# Altium footprint library SMD_TRSTR.PcbLib: 2 footprints
Each footprint in its own frame and in the unit in brackets; x right, y up, seen from the top. Pads: shape width x height; smd on the part's side, far side on the other; paste and mask are expansions set on the pad; w line width, h text height; cw(c..) or ccw(c..) is an arc to the next point about the centre after c.
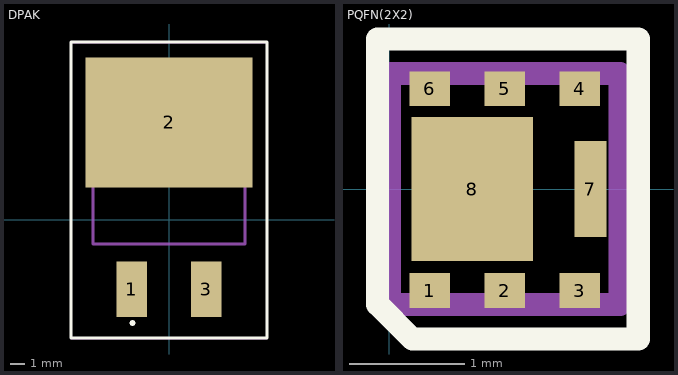
[diagram p0: the footprints below, top view; thin cyan lines are the x and y axes]

## DPAK [mm]
pads (3):
  rect 2.08x3.81 smd: 1(-2.54,-4.75) 3(2.54,-4.75)
  rect 11.43x8.89 smd: 2(0,6.68)
Top Overlay:
  lines w0.2: -6.7,-8.1 -6.7,12.2 6.7,12.2 6.7,-8.1 -6.7,-8.1 ; -2.6,-7.055 ccw(c-2.5,-7.055) -2.4,-7.055 ccw(c-2.5,-7.055) -2.6,-7.055
Mechanical 13:
  lines w0.2: -5.207,-1.655 -5.207,7.155 5.207,7.155 5.207,-1.655 -5.207,-1.655
Mechanical 15:
  lines w0.1: -6.715,-8.155 6.715,-8.155 6.715,12.125 -6.715,12.125 -6.715,-8.155
3D body "IRF530NSTRLPBF.stp": height 4.19, standoff 0.01, extent -4.825,-5.955 4.825,9.925

## PQFN(2X2) [mm]
pads (8):
  rect 0.35x0.3 smd: 1(0.35,-0.88) 2(1,-0.88) 3(1.65,-0.88) 4(1.65,0.87) 5(1,0.87) 6(0.35,0.87)
  rect 0.28x0.83 smd: 7(1.744,0)
  rect 1.05x1.25 smd: 8(0.72,0)
Top Overlay:
  lines w0.2: -0.1,-1 0.2,-1.3 2.158,-1.3 2.158,1.3 -0.1,1.3 -0.1,-1
Mechanical 13:
  lines w0.2: 0,-1 0,1 2,1 2,-1 0,-1
3D body "User Library-PQFN 2X2.STEP": height 0.88, standoff -0.02, extent 0,-1.02 2,1.02